# Altium schematic symbol library RoBeast_Schematic_Library.SchLib: 131 symbols (part 2 of 5)
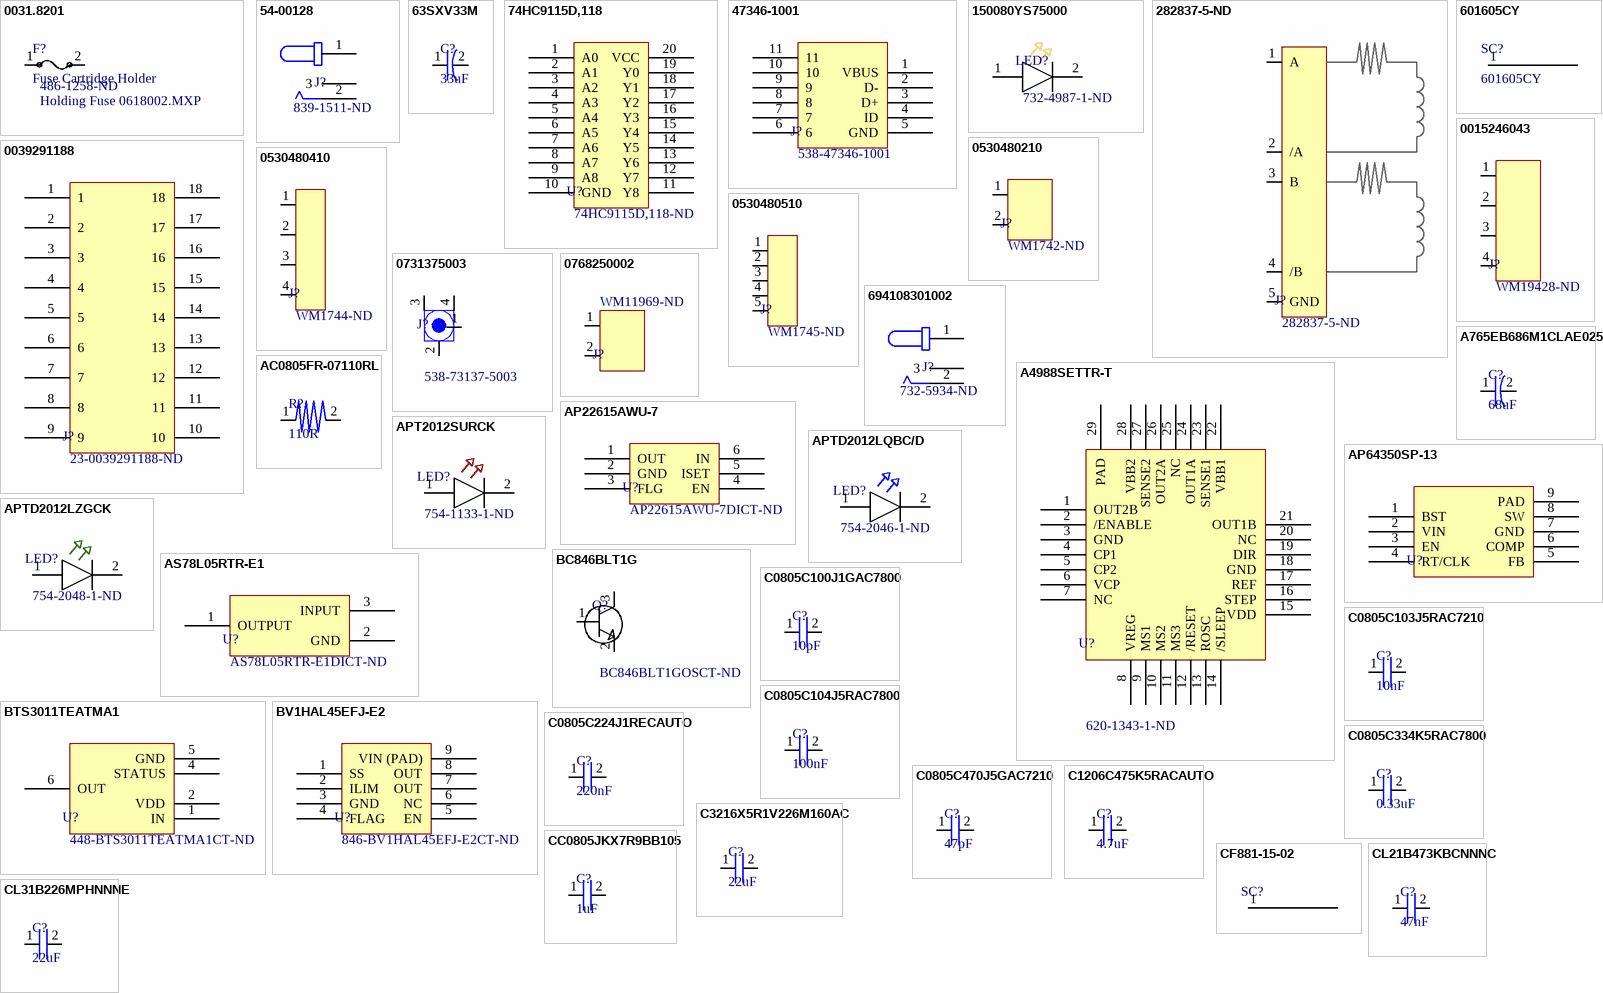
[diagram p4: symbols 0031.8201 to CL31B226MPHNNNE]

## C0805C100J1GAC7800
designator C?, comment 10pF
Ceramic Capacitor, Multilayer, Ceramic, 100V, 5% +Tol, 5% -Tol, C0G, 30ppm/Cel TC, 0.00001uF, Surface Mount, 0805; Manufacturer: KEMET; Manufacturer Part Number: C0805C100J1GACTU; Multilayer: Yes; Supplier: Digikey; Supplier Part Number: 399-C0805C100J1GAC7800CT-ND; RoHS: Yes; Category: Ceramic Capacitors; Stock: 31475; Pricing: 1=0.18, 10=0.122, 50=0.0732, 100=0.0576, 500=0.04252, 1000=0.03519 (USD); Mounting Technology: Surface Mount; Pins: 2; Dielectric Material: Ceramic; Package Shape: Rectangular; Case/Package: 0805; Terminal Finish: Nickel; Min Operating Temperature: -55°C; Max Operating Temperature: 125°C; JESD-609 Code: e3; Value: 10pF; Capacitor Type: Ceramic; Tolerance  (fill in as +-): 5%; Package Style: SMTMeter; Packaging: Tape and Reel; Tolerance (fill in as +-): 5%; Rated DC Voltage (URdc): 100V; Temperature Characteristics Code: C0G; Termination: Wraparound; Length: 2mm; Width: 1.25mm; Height: 0.78mm; Reach SVHC Compliant: Yes; RoHS Compliant: Yes; ComponentLink1URL: https://datasheet.ciiva.com:443/pdfs/VipMasterIC/IC/KEME/KEME-S-A0005605168/KEME-S-A0005605168-1.pdf?src-supplier=IHS+Markit; ComponentLink1Description: https://datasheet.ciiva.com:443/pdfs/VipMasterIC/IC/KEME/KEME-S-A0005605168/KEME-S-A0005605168-1.pdf?src-supplier=IHS+Markit; ComponentLink2URL: https://datasheet.ciiva.com/7842/kem-c1003-c0g-smd-7842137.pdf?src-supplier=Element14; ComponentLink2Description: https://datasheet.ciiva.com/7842/kem-c1003-c0g-smd-7842137.pdf?src-supplier=Element14; ComponentLink3URL: https://datasheet.ciiva.com/7842/kem-c1003-c0g-smd-7842136.pdf?src-supplier=Element14; ComponentLink3Description: https://datasheet.ciiva.com/7842/kem-c1003-c0g-smd-7842136.pdf?src-supplier=Element14; ComponentLink4URL: https://datasheet.ciiva.com/28668/1789732-28668725.pdf?src-supplier=Element14; ComponentLink4Description: https://datasheet.ciiva.com/28668/1789732-28668725.pdf?src-supplier=Element14; ComponentLink5URL: https://datasheet.ciiva.com/14588/70095383-14588189.pdf?src-supplier=Allied+Electronics; ComponentLink5Description: https://datasheet.ciiva.com/14588/70095383-14588189.pdf?src-supplier=Allied+Electronics; ComponentLink6URL: https://datasheet.ciiva.com/14603/70095383-14603133.pdf?src-supplier=Allied+Electronics; ComponentLink6Description: https://datasheet.ciiva.com/14603/70095383-14603133.pdf?src-supplier=Allied+Electronics
footprint 0805
pins: 1, 2

## C0805C103J5RAC7210
designator C?, comment 10nF
Ceramic Capacitor, Multilayer, Ceramic, 50V, 5% +Tol, 5% -Tol, X7R, 15% TC, 0.01uF, Surface Mount, 0805; Manufacturer: KEMET; Manufacturer Part Number: C0805C103J5RAC7210; Multilayer: Yes; Supplier 1: Digikey; RoHS: Yes; Category: Ceramic Capacitors; Stock 1: 247971; Pricing 1: 1=0.1, 10=0.059, 50=0.034, 100=0.0263, 500=0.0198, 1000=0.01555, 2500=0.01414, 5000=0.01301 (USD); Mount: Surface Mount; Number of Pins: 2; Dielectric Material: Ceramic; Package Shape: Rectangular; Size Code: 0805; Terminal Finish: Nickel; Min Operating Temperature: -55°C; Max Operating Temperature: 125°C; JESD-609 Code: e3; Capacitance: 10nF; Capacitor Type: Ceramic; Negative Tolerance: 5%; Packaging: Tape and Reel; Positive Tolerance: 5%; Rated DC Voltage (URdc): 50V; Temperature Characteristics Code: X7R; Termination: Wraparound; Reach SVHC Compliant: Yes; RoHS Compliant: Yes; ComponentLink1URL: https://datasheet.ciiva.com:443/pdfs/VipMasterIC/IC/KEME/KEME-S-A0008991654/KEME-S-A0008991654-1.pdf?src-supplier=IHS+Markit; ComponentLink1Description: https://datasheet.ciiva.com:443/pdfs/VipMasterIC/IC/KEME/KEME-S-A0008991654/KEME-S-A0008991654-1.pdf?src-supplier=IHS+Markit; ComponentLink2URL: http://components.arrow.com/part/dataview/3450688S9650973N7429?src-supplier=Arrow+Electronics; ComponentLink2Description: http://components.arrow.com/part/dataview/3450688S9650973N7429?src-supplier=Arrow+Electronics; ComponentLink3URL: http://www.mouser.com/ds/2/212/KEM_C1002_X7R_SMD-1102033.pdf?src-supplier=Mouser; ComponentLink3Description: http://www.mouser.com/ds/2/212/KEM_C1002_X7R_SMD-1102033.pdf?src-supplier=Mouser; ComponentLink4URL: https://api.kemet.com/component-edge/download/datasheet/C0805C103J5RAC7210.pdf?src-supplier=Digikey; ComponentLink4Description: https://api.kemet.com/component-edge/download/datasheet/C0805C103J5RAC7210.pdf?src-supplier=Digikey; Supplier Part Number 1: 399-17616-1-ND
footprint 0805
pins: 1, 2

## C0805C104J5RAC7800
designator C?, comment 100nF
Ceramic Capacitor, Multilayer, Ceramic, 50V, 5% +Tol, 5% -Tol, X7R, 15% TC, 0.1uF, Surface Mount, 0805; Manufacturer: KEMET; Manufacturer Part Number: C0805C104J5RACTU; Multilayer: Yes; Supplier 1: Digikey; RoHS: Yes; Category: Ceramic Capacitors; Stock 1: 605061; Pricing 1: 1=0.18, 10=0.122, 50=0.0732, 100=0.0576, 500=0.04252, 1000=0.03519 (USD); Mount: Surface Mount; Number of Pins: 2; Dielectric Material: Ceramic; Package Shape: Rectangular; Size Code: 0805; Terminal Finish: Nickel; Min Operating Temperature: -55°C; Max Operating Temperature: 125°C; JESD-609 Code: e3; Capacitor Type: Ceramic; Negative Tolerance: 5%; Packaging: Tape and Reel; Positive Tolerance: 5%; Rated DC Voltage (URdc): 50V; Temperature Characteristics Code: X7R; Termination: Wraparound; Reach SVHC Compliant: Yes; RoHS Compliant: Yes; ComponentLink1URL: http://capacitoredge.kemet.com:80/capedge2/intellispec.jsp?pn=C0805C104J5RACTU&displayPN=C0805C104J5RACTU&src-supplier=IHS+Markit; ComponentLink1Description: http://capacitoredge.kemet.com:80/capedge2/intellispec.jsp?pn=C0805C104J5RACTU&displayPN=C0805C104J5RACTU&src-supplier=IHS+Markit; ComponentLink2URL: https://datasheet.ciiva.com/7842/1732721-7842179.pdf?src-supplier=Element14; ComponentLink2Description: https://datasheet.ciiva.com/7842/1732721-7842179.pdf?src-supplier=Element14; ComponentLink3URL: https://datasheet.ciiva.com/28682/1851736-28682223.pdf?src-supplier=Element14; ComponentLink3Description: https://datasheet.ciiva.com/28682/1851736-28682223.pdf?src-supplier=Element14; ComponentLink4URL: https://datasheet.ciiva.com/7258/1828800-7258413.pdf?src-supplier=Newark; ComponentLink4Description: https://datasheet.ciiva.com/7258/1828800-7258413.pdf?src-supplier=Newark; ComponentLink5URL: https://datasheet.ciiva.com/14589/70095383-14589015.pdf?src-supplier=Allied+Electronics; ComponentLink5Description: https://datasheet.ciiva.com/14589/70095383-14589015.pdf?src-supplier=Allied+Electronics; ComponentLink6URL: https://datasheet.ciiva.com/5417/kem-c1002-x7r-smd-5417352.pdf?src-supplier=Mouser; ComponentLink6Description: https://datasheet.ciiva.com/5417/kem-c1002-x7r-smd-5417352.pdf?src-supplier=Mouser; ComponentLink7URL: https://datasheet.ciiva.com/39122/docfinderpartnumberc0402c102k5ractu-39122924.pdf?src-supplier=Onlinecomponents.com; ComponentLink7Description: https://datasheet.ciiva.com/39122/docfinderpartnumberc0402c102k5ractu-39122924.pdf?src-supplier=Onlinecomponents.com; Supplier Part Number 1: 399-C0805C104J5RAC7800CT-ND; Capacitance: 100nF
footprint 0805
pins: 1, 2

## C0805C224J1RECAUTO
designator C?, comment 220nF
Ceramic Capacitor, Multilayer, Ceramic, 100V, 5% +Tol, 5% -Tol, X7R, 15% TC, 0.22uF, Surface Mount, 0805; Manufacturer: KEMET; Manufacturer Part Number: C0805C224J1RECAUTO; Supplier 1: Digikey; RoHS: Yes; Category: Ceramic Capacitors; Stock 1: 3363; Pricing 1: 1=0.32, 10=0.207, 50=0.145, 100=0.1171, 500=0.08702, 1000=0.07614 (USD); Number of Pins: 2; Dielectric Material: Ceramic; Capacitor Type: Ceramic; Reach SVHC Compliant: Yes; RoHS Compliant: Yes; ComponentLink1URL: https://datasheet.ciiva.com:443/pdfs/VipMasterIC/IC/KEME/KEME-S-A0008958450/KEME-S-A0008958450-1.pdf?src-supplier=IHS+Markit; ComponentLink1Description: https://datasheet.ciiva.com:443/pdfs/VipMasterIC/IC/KEME/KEME-S-A0008958450/KEME-S-A0008958450-1.pdf?src-supplier=IHS+Markit; ComponentLink2URL: https://api.kemet.com/component-edge/download/datasheet/C0805C224J1RECAUTO.pdf?src-supplier=Digikey; ComponentLink2Description: https://api.kemet.com/component-edge/download/datasheet/C0805C224J1RECAUTO.pdf?src-supplier=Digikey; Supplier Part Number 1: 399-C0805C224J1RECAUTOCT-ND
footprint 0805
pins: 1, 2

## C0805C334K5RAC7800
designator C?, comment 0.33uF
Ceramic Capacitor, Multilayer, Ceramic, 50V, 10% +Tol, 10% -Tol, X7R, 15% TC, 0.33uF, Surface Mount, 0805; Manufacturer: KEMET; Manufacturer Part Number: C0805C334K5RACTU; Capacitance: 330nF; Multilayer: Yes; Supplier 1: Digikey; RoHS: Yes; Category: Ceramic Capacitors; Stock 1: 50949; Pricing 1: 1=0.16, 10=0.111, 50=0.0662, 100=0.0521, 500=0.0385, 1000=0.03188 (USD); Mount: Surface Mount; Number of Pins: 2; Dielectric Material: Ceramic; Package Shape: Rectangular; Size Code: 0805; Terminal Finish: Nickel; Min Operating Temperature: -55°C; Max Operating Temperature: 125°C; JESD-609 Code: e3; Capacitor Type: Ceramic; Negative Tolerance: 10%; Packaging: Tape and Reel; Positive Tolerance: 10%; Rated DC Voltage (URdc): 50V; Temperature Characteristics Code: X7R; Termination: Wraparound; Manufacturer Series: C0805C334K5RACTU; Reach SVHC Compliant: Yes; RoHS Compliant: Yes; ComponentLink1URL: http://capacitoredge.kemet.com:80/capedge2/DataSheet/Datasheet-C0805C334K5RAC7800.pdf?pn=C0805C334K5RAC7800&src-supplier=IHS+Markit; ComponentLink1Description: http://capacitoredge.kemet.com:80/capedge2/DataSheet/Datasheet-C0805C334K5RAC7800.pdf?pn=C0805C334K5RAC7800&src-supplier=IHS+Markit; ComponentLink2URL: https://datasheet.ciiva.com/28608/1851736-28608437.pdf?src-supplier=Element14; ComponentLink2Description: https://datasheet.ciiva.com/28608/1851736-28608437.pdf?src-supplier=Element14; ComponentLink3URL: https://datasheet.ciiva.com/28696/1851736-28696038.pdf?src-supplier=Element14; ComponentLink3Description: https://datasheet.ciiva.com/28696/1851736-28696038.pdf?src-supplier=Element14; ComponentLink4URL: https://datasheet.ciiva.com/18193/getdatasheetpartid-385729-18193783.pdf?src-supplier=Verical; ComponentLink4Description: https://datasheet.ciiva.com/18193/getdatasheetpartid-385729-18193783.pdf?src-supplier=Verical; ComponentLink5URL: https://datasheet.ciiva.com/18193/getdatasheetpartid-93202-18193786.pdf?src-supplier=Verical; ComponentLink5Description: https://datasheet.ciiva.com/18193/getdatasheetpartid-93202-18193786.pdf?src-supplier=Verical; Supplier Part Number 1: 399-C0805C334K5RAC7800CT-ND
footprint 0805
pins: 1, 2

## C0805C470J5GAC7210
designator C?, comment 47pF
Ceramic Capacitor, Multilayer, Ceramic, 50V, 5% +Tol, 5% -Tol, C0G, 30ppm/Cel TC, 0.000047uF, Surface Mount, 0805; Manufacturer: KEMET; Manufacturer Part Number: C0805C470J5GAC7210; Supplier 1: Digikey; RoHS: Yes; Category: Ceramic Capacitors; Stock 1: 22724; Pricing 1: 1=0.1, 10=0.054, 50=0.031, 100=0.024, 500=0.01802, 1000=0.01417, 2500=0.01288, 5000=0.01185 (USD); Number of Pins: 2; Dielectric Material: Ceramic; Terminal Finish: Nickel; JESD-609 Code: e3; Capacitor Type: Ceramic; Reach SVHC Compliant: Yes; RoHS Compliant: Yes; ComponentLink1URL: https://datasheet.ciiva.com:443/pdfs/VipMasterIC/IC/KEME/KEME-S-A0005605168/KEME-S-A0005605168-1.pdf?src-supplier=IHS+Markit; ComponentLink1Description: https://datasheet.ciiva.com:443/pdfs/VipMasterIC/IC/KEME/KEME-S-A0005605168/KEME-S-A0005605168-1.pdf?src-supplier=IHS+Markit; ComponentLink2URL: https://datasheet.ciiva.com/11646/kem-c1003-c0g-smd-11646575.pdf?src-supplier=Avnet; ComponentLink2Description: https://datasheet.ciiva.com/11646/kem-c1003-c0g-smd-11646575.pdf?src-supplier=Avnet; Supplier Part Number 1: 399-C0805C470J5GAC7210CT-ND
footprint 0805
pins: 1, 2

## C1206C475K5RACAUTO
designator C?, comment 4.7uF
Ceramic Capacitor, Multilayer, Ceramic, 50V, 10% +Tol, 10% -Tol, X7R, 15% TC, 4.7uF, Surface Mount, 1206; Manufacturer: KEMET; Manufacturer Part Number: C1206C475K5RACAUTO; Supplier: Digikey; Supplier Part Number: 399-C1206C475K5RACAUTOCT-ND; RoHS: Yes; Category: Ceramic Capacitors; Stock: 66; Pricing: 1=0.43, 10=0.285, 50=0.2104, 100=0.1713, 500=0.13522, 1000=0.11418 (USD); ComponentLink1URL: https://datasheet.ciiva.com:443/pdfs/VipMasterIC/IC/KEME/KEME-S-A0009891634/KEME-S-A0009891634-1.pdf?src-supplier=IHS+Markit; ComponentLink1Description: https://datasheet.ciiva.com:443/pdfs/VipMasterIC/IC/KEME/KEME-S-A0009891634/KEME-S-A0009891634-1.pdf?src-supplier=IHS+Markit; ComponentLink2URL: http://www.farnell.com/datasheets/2818560.pdf?src-supplier=Newark; ComponentLink2Description: http://www.farnell.com/datasheets/2818560.pdf?src-supplier=Newark
footprint 1206
pins: 1, 2

## C3216X5R1V226M160AC
designator C?, comment 22uF
Ceramic Capacitor, Multilayer, Ceramic, 35V, 20% +Tol, 20% -Tol, X5R, 15% TC, 22uF, Surface Mount, 1206; Manufacturer: TDK; Manufacturer Part Number: C3216X5R1V226M160AC; Multilayer: Yes; Supplier 1: Digikey; RoHS: Yes; Category: Ceramic Capacitors; Stock 1: 338205; Pricing 1: 1=0.97, 10=0.7, 50=0.6118, 100=0.4985, 500=0.40788, 1000=0.35123 (USD); Mount: Surface Mount; Number of Pins: 2; Dielectric Material: Ceramic; Package Shape: Rectangular; Size Code: 1206; Terminal Finish: Nickel; Min Operating Temperature: -55°C; Max Operating Temperature: 85°C; JESD-609 Code: e3; Capacitance: 22uF; Capacitor Type: Ceramic; Negative Tolerance: 20%; Package Style: SMTMeter; Packaging: Tape and Reel; Positive Tolerance: 20%; Rated DC Voltage (URdc): 35V; Temperature Characteristics Code: X5R; Termination: Wraparound; Length: 3.2mm; Width: 1.6mm; Height: 1.6mm; Reach SVHC Compliant: Yes; RoHS Compliant: Yes; ComponentLink1URL: https://datasheet.ciiva.com:443/pdfs/VipMasterIC/IC/TDKC/TDKC-S-A0008796792/TDKC-S-A0008796792-1.pdf?src-supplier=IHS+Markit; ComponentLink1Description: https://datasheet.ciiva.com:443/pdfs/VipMasterIC/IC/TDKC/TDKC-S-A0008796792/TDKC-S-A0008796792-1.pdf?src-supplier=IHS+Markit; ComponentLink2URL: https://datasheet.ciiva.com/24216/c3216x5r1v226m160ac-265035-24216573.pdf?src-supplier=Mouser; ComponentLink2Description: https://datasheet.ciiva.com/24216/c3216x5r1v226m160ac-265035-24216573.pdf?src-supplier=Mouser; ComponentLink3URL: https://datasheet.ciiva.com/23803/1796654-23803046.pdf?src-supplier=Newark; ComponentLink3Description: https://datasheet.ciiva.com/23803/1796654-23803046.pdf?src-supplier=Newark; ComponentLink4URL: https://datasheet.ciiva.com/22725/1913358-22725591.pdf?src-supplier=Element14; ComponentLink4Description: https://datasheet.ciiva.com/22725/1913358-22725591.pdf?src-supplier=Element14; ComponentLink5URL: https://datasheet.ciiva.com/22725/1913358-22725592.pdf?src-supplier=Element14; ComponentLink5Description: https://datasheet.ciiva.com/22725/1913358-22725592.pdf?src-supplier=Element14; ComponentLink6URL: https://datasheet.ciiva.com/6259/tdkmlcccaprange-6259231.pdf?src-supplier=Digikey; ComponentLink6Description: https://datasheet.ciiva.com/6259/tdkmlcccaprange-6259231.pdf?src-supplier=Digikey; Supplier Part Number 1: 445-8045-1-ND
footprint 1206
pins: 1, 2

## CC0805JKX7R9BB105
designator C?, comment 1uF
Ceramic Capacitor, Multilayer, Ceramic, 50V, 5% +Tol, 5% -Tol, X7R, 15% TC, 1uF, Surface Mount, 0805; Manufacturer: Yageo; Manufacturer Part Number: CC0805JKX7R9BB105; Supplier 1: Digikey; RoHS: Yes; Category: Ceramic Capacitors; Stock 1: 50247; Pricing 1: 1=0.32, 10=0.207, 50=0.1454, 100=0.1174, 500=0.08724, 1000=0.07633 (USD); ComponentLink1URL: https://datasheet.ciiva.com:443/pdfs/VipMasterIC/IC/YAGO/YAGO-S-A0003557223/YAGO-S-A0003557223-1.pdf?src-supplier=IHS+Markit; ComponentLink1Description: https://datasheet.ciiva.com:443/pdfs/VipMasterIC/IC/YAGO/YAGO-S-A0003557223/YAGO-S-A0003557223-1.pdf?src-supplier=IHS+Markit; ComponentLink2URL: http://www.yageo.com/documents/recent/UPY-GPHC_X7R_6.3V-to-50V_18.pdf?src-supplier=Digikey; ComponentLink2Description: http://www.yageo.com/documents/recent/UPY-GPHC_X7R_6.3V-to-50V_18.pdf?src-supplier=Digikey; Supplier Part Number 1: 311-3498-1-ND
footprint 0805
pins: 1, 2

## CF881-15-02
designator SC?  (value not drawn)
2 Core, AWG 16
pins: 1

## CL21B473KBCNNNC
designator C?, comment 47nF
Ceramic Capacitor, Multilayer, Ceramic, 50V, 10% +Tol, 10% -Tol, X7R, 15% TC, 0.047uF, Surface Mount, 0805; Manufacturer: Samsung; Manufacturer Part Number: CL21B473KBCNNNC; Multilayer: Yes; Supplier 1: Digikey; RoHS: Yes; Category: Ceramic Capacitors; Stock 1: 502166; Pricing 1: 1=0.1, 10=0.036, 50=0.0208, 100=0.0161, 500=0.01212, 1000=0.00953 (USD); Mount: Surface Mount; Number of Pins: 2; Dielectric Material: Ceramic; Package Shape: Rectangular; Size Code: 0805; Terminal Finish: Nickel; Min Operating Temperature: -55°C; Max Operating Temperature: 125°C; JESD-609 Code: e3; Capacitance: 47nF; Capacitor Type: Ceramic; Negative Tolerance: 10%; Package Style: SMTMeter; Packaging: Tape and Reel; Positive Tolerance: 10%; Rated DC Voltage (URdc): 50V; Temperature Characteristics Code: X7R; Termination: Wraparound; Length: 2mm; Width: 1.25mm; Height: 0.85mm; Reach SVHC Compliant: Yes; RoHS Compliant: Yes; ComponentLink1URL: https://datasheet.ciiva.com:443/pdfs/VipMasterIC/IC/SEMS/SEMS-S-A0008523078/SEMS-S-A0008523078-1.pdf?src-supplier=IHS+Markit; ComponentLink1Description: https://datasheet.ciiva.com:443/pdfs/VipMasterIC/IC/SEMS/SEMS-S-A0008523078/SEMS-S-A0008523078-1.pdf?src-supplier=IHS+Markit; ComponentLink2URL: https://datasheet.ciiva.com/15195/getdatasheetpartid-357428-15195917.pdf?src-supplier=Verical; ComponentLink2Description: https://datasheet.ciiva.com/15195/getdatasheetpartid-357428-15195917.pdf?src-supplier=Verical; ComponentLink3URL: https://datasheet.ciiva.com/29199/454396-da-01-en-vs-kondensator-0805-29199678.pdf?src-supplier=Conrad; ComponentLink3Description: https://datasheet.ciiva.com/29199/454396-da-01-en-vs-kondensator-0805-29199678.pdf?src-supplier=Conrad; ComponentLink4URL: https://datasheet.ciiva.com/16289/cl05b104kq5nnnc-16289529.pdf?src-supplier=Future+Electronics; ComponentLink4Description: https://datasheet.ciiva.com/16289/cl05b104kq5nnnc-16289529.pdf?src-supplier=Future+Electronics; Supplier Part Number 1: 1276-1250-1-ND
footprint 0805
pins: 1, 2

## CL31B226MPHNNNE
designator C?, comment 22uF
Ceramic Capacitor, Multilayer, Ceramic, 10V, 20% +Tol, 20% -Tol, X7R, 15% TC, 22uF, Surface Mount, 1206; Manufacturer: Samsung; Manufacturer Part Number: CL31B226MPHNNNE; Multilayer: Yes; Supplier 1: Digikey; RoHS: Yes; Category: Ceramic Capacitors; Stock 1: 1058662; Pricing 1: 1=0.34, 10=0.225, 50=0.1658, 100=0.1349, 500=0.10654, 1000=0.08996 (USD); Mount: Surface Mount; Number of Pins: 2; Dielectric Material: Ceramic; Package Shape: Rectangular; Size Code: 1206; Terminal Finish: Nickel; Min Operating Temperature: -55°C; Max Operating Temperature: 125°C; JESD-609 Code: e3; Capacitance: 22uF; Capacitor Type: Ceramic; Negative Tolerance: 20%; Packaging: Tape and Reel; Positive Tolerance: 20%; Rated DC Voltage (URdc): 10V; Temperature Characteristics Code: X7R; Termination: Wraparound; Reach SVHC Compliant: Yes; RoHS Compliant: Yes; ComponentLink1URL: https://datasheet.ciiva.com:443/pdfs/VipMasterIC/IC/SEMS/SEMS-S-A0008384515/SEMS-S-A0008872952-1.pdf?src-supplier=IHS+Markit; ComponentLink1Description: https://datasheet.ciiva.com:443/pdfs/VipMasterIC/IC/SEMS/SEMS-S-A0008384515/SEMS-S-A0008872952-1.pdf?src-supplier=IHS+Markit; ComponentLink2URL: https://datasheet.ciiva.com/25792/cl31b226mphnnne-25792003.pdf?src-supplier=Digikey; ComponentLink2Description: https://datasheet.ciiva.com/25792/cl31b226mphnnne-25792003.pdf?src-supplier=Digikey; Supplier Part Number 1: 1276-3148-1-ND
footprint 1206
pins: 1, 2

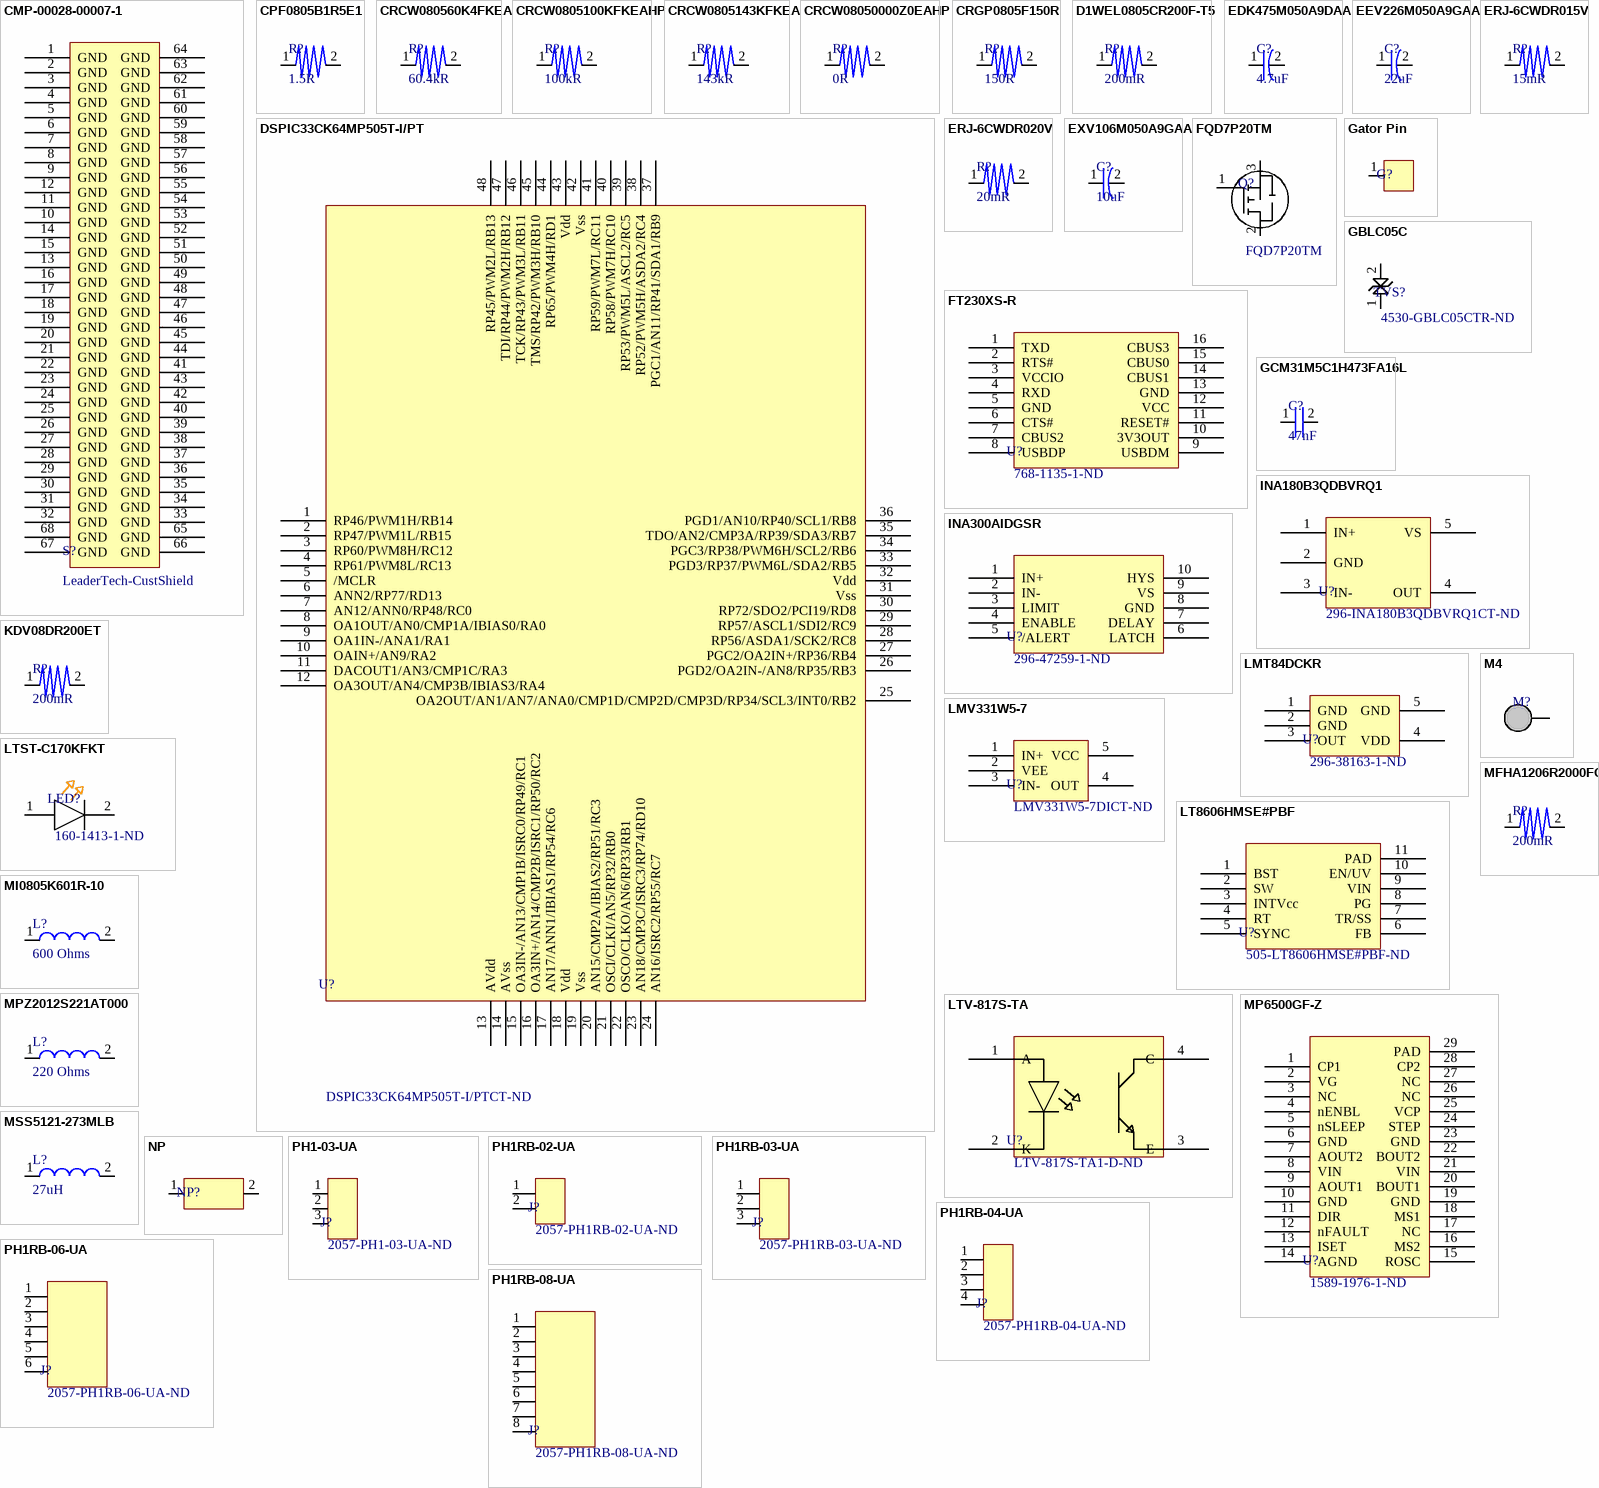
[diagram p1: symbols CMP-00028-00007-1 to PH1RB-08-UA]

## CMP-00028-00007-1
designator S?, comment LeaderTech-CustShield
footprint CMP-00028-00007-1
pins: 1 GND, 2 GND, 3 GND, 4 GND, 5 GND, 6 GND, 7 GND, 8 GND, 9 GND, 10 GND, 11 GND, 12 GND, 13 GND, 14 GND, 15 GND, 16 GND, 17 GND, 18 GND, 19 GND, 20 GND, 21 GND, 22 GND, 23 GND, 24 GND, 25 GND, 26 GND, 27 GND, 28 GND, 29 GND, 30 GND, 31 GND, 32 GND, 33 GND, 34 GND, 35 GND, 36 GND, 37 GND, 38 GND, 39 GND, 40 GND, 41 GND, 42 GND, 43 GND, 44 GND, 45 GND, 46 GND, 47 GND, 48 GND, 49 GND, 50 GND, 51 GND, 52 GND, 53 GND, 54 GND, 55 GND, 56 GND, 57 GND, 58 GND, 59 GND, 60 GND, 61 GND, 62 GND, 63 GND, 64 GND, 65 GND, 66 GND, 67 GND, 68 GND

## CPF0805B1R5E1
designator R?, comment 1.5R
Res Thin Film 1.5Ohm 0.1% 100mW 25ppm/°C 2-Pin 0805 SMD T/R; Manufacturer: TE Connectivity Neohm; Manufacturer Part Number: CPF0805B1R5E1; Supplier: Digikey; Supplier Part Number: 1712-CPF0805B1R5E1CT-ND; RoHS: No; Stock: 3041; Pricing: 1=0.4, 10=0.284, 50=0.2182, 100=0.1935, 500=0.1444 (USD)
footprint 0805
pins: 1, 2

## CRCW080560K4FKEA
designator R?, comment 60.4kR
Fixed Resistor, Metal Glaze/thick Film, 0.125W, 60400ohm, 150V, 1% +/-Tol, 100ppm/Cel, Surface Mount, 0805; Manufacturer: Vishay; Manufacturer Part Number: CRCW080560K4FKEA; Rated Power Dissipation (P): 125mW; Rated Temperature: 70°C; Temperature Coefficient: 100ppm/°C; Package Height: 0.45mm; Package Length: 2mm; Package Width: 1.25mm; Reference Standard: AEC-Q200; Supplier 1: Digikey; RoHS: Yes; Category: Chip SMD Resistors; Stock 1: 41115; Pricing 1: 1=0.1, 10=0.038, 50=0.0248, 100=0.021, 500=0.01462, 1000=0.01273 (USD); Mount: Surface Mount; Number of Pins: 2; Package Shape: Rectangular; Size Code: 0805; Terminal Finish: Nickel; Min Operating Temperature: -55°C; Max Operating Temperature: 155°C; Tolerance: 1%; JESD-609 Code: e3; Resistor Type: FIXED RESISTOR; Construction: Chip; Package Style: SMTMeter; Packaging: Tape and Reel; Resistance: 60.4kR; Technology: METAL GLAZE/THICK FILM; Termination: Wraparound; Working Voltage: 150V; Reach SVHC Compliant: Yes; RoHS Compliant: Yes; ComponentLink1URL: https://datasheet.ciiva.com:443/pdfs/VipMasterIC/IC/VISH/VISH-S-A0007266705/VISH-S-A0007266705-1.pdf?src-supplier=IHS+Markit; ComponentLink1Description: https://datasheet.ciiva.com:443/pdfs/VipMasterIC/IC/VISH/VISH-S-A0007266705/VISH-S-A0007266705-1.pdf?src-supplier=IHS+Markit; ComponentLink2URL: https://datasheet.ciiva.com/11812/0900766b80d98b26-11812606.pdf?src-supplier=Rs; ComponentLink2Description: https://datasheet.ciiva.com/11812/0900766b80d98b26-11812606.pdf?src-supplier=Rs; ComponentLink3URL: https://datasheet.ciiva.com/2496/dcrcwe3-2496163.pdf?src-supplier=Digikey; ComponentLink3Description: https://datasheet.ciiva.com/2496/dcrcwe3-2496163.pdf?src-supplier=Digikey; ComponentLink4URL: https://datasheet.ciiva.com/2496/dcrcwe3-2496164.pdf?src-supplier=Digikey; ComponentLink4Description: https://datasheet.ciiva.com/2496/dcrcwe3-2496164.pdf?src-supplier=Digikey; ComponentLink5URL: https://datasheet.ciiva.com/2496/dcrcwe3-2496165.pdf?src-supplier=Digikey; ComponentLink5Description: https://datasheet.ciiva.com/2496/dcrcwe3-2496165.pdf?src-supplier=Digikey; ComponentLink6URL: https://datasheet.ciiva.com/8996/dcrcwe3-8996426.pdf?src-supplier=Avnet; ComponentLink6Description: https://datasheet.ciiva.com/8996/dcrcwe3-8996426.pdf?src-supplier=Avnet; ComponentLink7URL: https://datasheet.ciiva.com/8996/dcrcwe3-8996428.pdf?src-supplier=Avnet; ComponentLink7Description: https://datasheet.ciiva.com/8996/dcrcwe3-8996428.pdf?src-supplier=Avnet; ComponentLink8URL: https://datasheet.ciiva.com/16761/70201119-16761640.pdf?src-supplier=Allied+Electronics; ComponentLink8Description: https://datasheet.ciiva.com/16761/70201119-16761640.pdf?src-supplier=Allied+Electronics; ComponentLink9URL: https://datasheet.ciiva.com/16763/70201119-16763337.pdf?src-supplier=Allied+Electronics; ComponentLink9Description: https://datasheet.ciiva.com/16763/70201119-16763337.pdf?src-supplier=Allied+Electronics; ComponentLink10URL: https://datasheet.ciiva.com/22702/1697337-22702842.pdf?src-supplier=Element14; ComponentLink10Description: https://datasheet.ciiva.com/22702/1697337-22702842.pdf?src-supplier=Element14; ComponentLink11URL: https://datasheet.ciiva.com/7816/1697337-7816106.pdf?src-supplier=Element14; ComponentLink11Description: https://datasheet.ciiva.com/7816/1697337-7816106.pdf?src-supplier=Element14; ComponentLink12URL: https://datasheet.ciiva.com/7816/1697337-7816107.pdf?src-supplier=Element14; ComponentLink12Description: https://datasheet.ciiva.com/7816/1697337-7816107.pdf?src-supplier=Element14; Supplier Part Number 1: 541-60.4KCCT-ND
footprint 0805
pins: 1, 2

## CRCW0805100KFKEAHP
designator R?, comment 100kR
Fixed Resistor, Metal Glaze/thick Film, 0.5W, 100000ohm, 150V, 1% +/-Tol, 100ppm/Cel, Surface Mount, 0805; Manufacturer: Vishay; Manufacturer Part Number: CRCW0805100KFKEAHP; Manufacturer Series: CRCW-HPE3; Rated Power Dissipation (P): 500mW; Rated Temperature: 70°C; Temperature Coefficient: 100ppm/°C; Package Height: 0.5mm; Package Length: 2mm; Package Width: 1.25mm; Reference Standard: AEC-Q200; Supplier 1: Digikey; RoHS: Yes; Category: Chip SMD Resistors; Stock 1: 104274; Pricing 1: 1=0.2, 10=0.103, 50=0.0688, 100=0.0587, 500=0.0421, 1000=0.03706 (USD); Mount: Surface Mount; Number of Pins: 2; Package Shape: Rectangular; Terminal Finish: Nickel; Size Code: 0805; Min Operating Temperature: -55°C; Max Operating Temperature: 155°C; Tolerance: 1%; JESD-609 Code: e3; Package Style: SMTMeter; Technology: METAL GLAZE/THICK FILM; Resistor Type: FIXED RESISTOR; Construction: Chip; Packaging: Tape and Reel; Resistance: 100kR; Series: CRCW-HP E3; Termination: Wraparound; Working Voltage: 150V; Reach SVHC Compliant: Yes; RoHS Compliant: Yes; ComponentLink1URL: https://datasheet.ciiva.com:443/pdfs/VipMasterIC/IC/VISH/VISH-S-A0009391795/VISH-S-A0009391795-1.pdf?src-supplier=IHS+Markit; ComponentLink1Description: https://datasheet.ciiva.com:443/pdfs/VipMasterIC/IC/VISH/VISH-S-A0009391795/VISH-S-A0009391795-1.pdf?src-supplier=IHS+Markit; ComponentLink2URL: https://datasheet.ciiva.com/2475/crcwhpe3-2475664.pdf?src-supplier=Digikey; ComponentLink2Description: https://datasheet.ciiva.com/2475/crcwhpe3-2475664.pdf?src-supplier=Digikey; ComponentLink3URL: https://datasheet.ciiva.com/8982/crcwhpe3-8982333.pdf?src-supplier=Avnet; ComponentLink3Description: https://datasheet.ciiva.com/8982/crcwhpe3-8982333.pdf?src-supplier=Avnet; ComponentLink4URL: https://datasheet.ciiva.com/7777/424479-7777350.pdf?src-supplier=Element14; ComponentLink4Description: https://datasheet.ciiva.com/7777/424479-7777350.pdf?src-supplier=Element14; ComponentLink5URL: https://datasheet.ciiva.com/7777/424479-7777351.pdf?src-supplier=Element14; ComponentLink5Description: https://datasheet.ciiva.com/7777/424479-7777351.pdf?src-supplier=Element14; Supplier Part Number 1: 541-100KTCT-ND
footprint 0805
pins: 1, 2

## CRCW0805143KFKEA
designator R?, comment 143kR
Fixed Resistor, Metal Glaze/thick Film, 0.125W, 143000ohm, 150V, 1% +/-Tol, 100ppm/Cel, Surface Mount, 0805; Manufacturer: Vishay; Manufacturer Part Number: CRCW0805143KFKEA; Power: 125mW; Rated Temperature: 70°C; Temperature Coefficient: 100ppm/°C; Package Height: 0.45mm; Package Length: 2mm; Package Width: 1.25mm; Reference Standard: AEC-Q200; Supplier: Digikey; Supplier Part Number: 541-143KCCT-ND; RoHS: Yes; Category: Chip SMD Resistors; Stock: 28222; Pricing: 1=0.1, 10=0.038, 50=0.0248, 100=0.021, 500=0.01462, 1000=0.01273 (USD); Mounting Technology: Surface Mount; Pins: 2; Package Shape: Rectangular; Case/Package: 0805; Terminal Finish: Nickel; Min Operating Temperature: -55°C; Max Operating Temperature: 155°C; Tolerance: 1%; JESD-609 Code: e3; Resistor Type: FIXED RESISTOR; Construction: Chip; Package Style: SMTMeter; Packaging: Tape and Reel; Value: 143kR; Technology: METAL GLAZE/THICK FILM; Termination: Wraparound; Working Voltage: 150V; Reach SVHC Compliant: Yes; RoHS Compliant: Yes; ComponentLink1URL: https://datasheet.ciiva.com:443/pdfs/VipMasterIC/IC/VISH/VISH-S-A0007266705/VISH-S-A0007266705-1.pdf?src-supplier=IHS+Markit; ComponentLink1Description: https://datasheet.ciiva.com:443/pdfs/VipMasterIC/IC/VISH/VISH-S-A0007266705/VISH-S-A0007266705-1.pdf?src-supplier=IHS+Markit; ComponentLink2URL: https://datasheet.ciiva.com/2495/dcrcwe3-2495569.pdf?src-supplier=Digikey; ComponentLink2Description: https://datasheet.ciiva.com/2495/dcrcwe3-2495569.pdf?src-supplier=Digikey; ComponentLink3URL: https://datasheet.ciiva.com/2495/dcrcwe3-2495571.pdf?src-supplier=Digikey; ComponentLink3Description: https://datasheet.ciiva.com/2495/dcrcwe3-2495571.pdf?src-supplier=Digikey; ComponentLink4URL: https://datasheet.ciiva.com/2495/dcrcwe3-2495570.pdf?src-supplier=Digikey; ComponentLink4Description: https://datasheet.ciiva.com/2495/dcrcwe3-2495570.pdf?src-supplier=Digikey; ComponentLink5URL: https://datasheet.ciiva.com/22675/1912744-22675883.pdf?src-supplier=Element14; ComponentLink5Description: https://datasheet.ciiva.com/22675/1912744-22675883.pdf?src-supplier=Element14; ComponentLink6URL: https://datasheet.ciiva.com/22675/1912744-22675884.pdf?src-supplier=Element14; ComponentLink6Description: https://datasheet.ciiva.com/22675/1912744-22675884.pdf?src-supplier=Element14
footprint 0805
pins: 1, 2

## CRCW08050000Z0EAHP
designator R?, comment 0R
Fixed Resistor, Metal Glaze/thick Film, 0.5W, 0ohm, Surface Mount, 0805; Manufacturer: Vishay Dale; Manufacturer Part Number: CRCW08050000Z0EAHP; Rated Power Dissipation (P): 500mW; Rated Temperature: 70°C; Package Height: 0.5mm; Package Length: 2mm; Package Width: 1.25mm; Reference Standard: AEC-Q200; Supplier 1: Digikey; RoHS: Yes; Category: Chip SMD Resistors; Stock 1: 189599; Pricing 1: 1=0.18, 10=0.142, 25=0.1088, 50=0.0788, 100=0.0555, 250=0.04488, 500=0.03534, 1000=0.02447 (USD); Mount: Surface Mount; Number of Pins: 2; Package Shape: Rectangular; Size Code: 0805; Terminal Finish: Nickel; Min Operating Temperature: -55°C; Max Operating Temperature: 155°C; JESD-609 Code: e3; Resistor Type: FIXED RESISTOR; Construction: Chip; Package Style: SMTMeter; Packaging: Tape and Reel; Resistance: 0R; Technology: METAL GLAZE/THICK FILM; Termination: Wraparound; Reach SVHC Compliant: Yes; RoHS Compliant: Yes; ComponentLink1URL: https://datasheet.ciiva.com:443/pdfs/VipMasterIC/IC/VISH/VISH-S-A0009391795/VISH-S-A0009391795-1.pdf?src-supplier=IHS+Markit; ComponentLink1Description: https://datasheet.ciiva.com:443/pdfs/VipMasterIC/IC/VISH/VISH-S-A0009391795/VISH-S-A0009391795-1.pdf?src-supplier=IHS+Markit; ComponentLink2URL: https://datasheet.ciiva.com/7859/crcwhpe3-7859727.pdf?src-supplier=Element14; ComponentLink2Description: https://datasheet.ciiva.com/7859/crcwhpe3-7859727.pdf?src-supplier=Element14; ComponentLink3URL: https://datasheet.ciiva.com/28621/1750852-28621406.pdf?src-supplier=Element14; ComponentLink3Description: https://datasheet.ciiva.com/28621/1750852-28621406.pdf?src-supplier=Element14; ComponentLink4URL: https://datasheet.ciiva.com/2474/crcwhpe3-2474633.pdf?src-supplier=Digikey; ComponentLink4Description: https://datasheet.ciiva.com/2474/crcwhpe3-2474633.pdf?src-supplier=Digikey; ComponentLink5URL: https://datasheet.ciiva.com/2474/crcwhpe3-2474634.pdf?src-supplier=Digikey; ComponentLink5Description: https://datasheet.ciiva.com/2474/crcwhpe3-2474634.pdf?src-supplier=Digikey; ComponentLink6URL: https://datasheet.ciiva.com/2474/crcwhpe3-2474632.pdf?src-supplier=Digikey; ComponentLink6Description: https://datasheet.ciiva.com/2474/crcwhpe3-2474632.pdf?src-supplier=Digikey; ComponentLink7URL: https://datasheet.ciiva.com/5549/crcwhpe3-46056-5549241.pdf?src-supplier=Mouser; ComponentLink7Description: https://datasheet.ciiva.com/5549/crcwhpe3-46056-5549241.pdf?src-supplier=Mouser; ComponentLink8URL: https://datasheet.ciiva.com/9109/crcwhpe3-9109934.pdf?src-supplier=Avnet; ComponentLink8Description: https://datasheet.ciiva.com/9109/crcwhpe3-9109934.pdf?src-supplier=Avnet; ComponentLink9URL: https://datasheet.ciiva.com/16498/crcwhpe3-16498294.pdf?src-supplier=Future+Electronics; ComponentLink9Description: https://datasheet.ciiva.com/16498/crcwhpe3-16498294.pdf?src-supplier=Future+Electronics; Supplier Part Number 1: 541-0.0TBCT-ND
footprint 0805
pins: 1, 2

## CRGP0805F150R
designator R?, comment 150R
Fixed Resistor, Metal Glaze/thick Film, 0.33W, 150ohm, 150V, 1% +/-Tol, 100ppm/Cel, Surface Mount, 0805; Manufacturer: TE Connectivity; Manufacturer Part Number: CRGP0805F150R; Supplier 1: Digikey; RoHS: Yes; Category: Chip SMD Resistors; Stock 1: 37582; Pricing 1: 1=0.17, 10=0.086, 50=0.0576, 100=0.0492, 500=0.0353, 1000=0.03107 (USD); Number of Pins: 2; Resistor Type: FIXED RESISTOR; Reach SVHC Compliant: Yes; RoHS Compliant: Yes; ComponentLink1URL: https://datasheet.ciiva.com:443/pdfs/VipMasterIC/IC/TYEL/TYEL-S-A0005460475/TYEL-S-A0005460475-1.pdf?src-supplier=IHS+Markit; ComponentLink1Description: https://datasheet.ciiva.com:443/pdfs/VipMasterIC/IC/TYEL/TYEL-S-A0005460475/TYEL-S-A0005460475-1.pdf?src-supplier=IHS+Markit; ComponentLink2URL: https://www.te.com/commerce/DocumentDelivery/DDEController?Action=srchrtrv&amp;DocNm=9-1773463-9&amp;DocType=DS&amp;DocLang=English&src-supplier=Digikey; ComponentLink2Description: https://www.te.com/commerce/DocumentDelivery/DDEController?Action=srchrtrv&amp;DocNm=9-1773463-9&amp;DocType=DS&amp;DocLang=English&src-supplier=Digikey; Supplier Part Number 1: A130467CT-ND
footprint 0805
pins: 1, 2

## D1WEL0805CR200F-T5
designator R?, comment 200mR
Res 0805 50PPM 0.2 Ohm 1.0% 0.75; Manufacturer: Thin Film Tech; Manufacturer Part Number: D1WEL0805CR200F-T5; Supplier 1: Digikey; RoHS: No; Category: Chip SMD Resistors; Stock 1: 11324; Pricing 1: 1=0.46, 10=0.337, 25=0.2704, 50=0.2008, 100=0.1417, 250=0.1262, 500=0.10818, 1000=0.08242 (USD); Supplier Part Number 1: 4463-D1WEL0805CR200F-T5CT-ND
footprint 0805
pins: 1, 2

## DSPIC33CK64MP505T-I/PT
designator U?, comment Supplier Part Number: DSPIC33CK64MP505T-I/PTCT-ND  (hidden comment: uC)
16-Bit Size, 0-Ext Bit, 64MHz, CMOS, PQFP48; Manufacturer: Microchip; Manufacturer Part Number: DSPIC33CK64MP505T-I/PT; Supplier: Digikey; RoHS: No; Category: Microcontrollers; Stock: 1600; Pricing: 1=3.75, 25=3.44, 100=3.12 (USD); ComponentLink1URL: https://datasheet.ciiva.com:443/pdfs/VipMasterIC/IC/MCHP/MCHP-S-A0007771634/MCHP-S-A0007771634-1.pdf?src-supplier=IHS+Markit; ComponentLink1Description: https://datasheet.ciiva.com:443/pdfs/VipMasterIC/IC/MCHP/MCHP-S-A0007771634/MCHP-S-A0007771634-1.pdf?src-supplier=IHS+Markit; ComponentLink2URL: http://www.microchip.com/mymicrochip/filehandler.aspx?ddocname=en606233&src-supplier=Digikey; ComponentLink2Description: http://www.microchip.com/mymicrochip/filehandler.aspx?ddocname=en606233&src-supplier=Digikey
footprint DSPIC33CK64MP505T-I/PT
pins: 1 RP46/PWM1H/RB14, 2 RP47/PWM1L/RB15, 3 RP60/PWM8H/RC12, 4 RP61/PWM8L/RC13, 5 /MCLR, 6 ANN2/RP77/RD13, 7 AN12/ANN0/RP48/RC0, 8 OA1OUT/AN0/CMP1A/IBIAS0/RA0, 9 OA1IN-/ANA1/RA1, 10 OAIN+/AN9/RA2, 11 DACOUT1/AN3/CMP1C/RA3, 12 OA3OUT/AN4/CMP3B/IBIAS3/RA4, 13 AVdd, 14 AVss, 15 OA3IN-/AN13/CMP1B/ISRC0/RP49/RC1, 16 OA3IN+/AN14/CMP2B/ISRC1/RP50/RC2, 17 AN17/ANN1/IBIAS1/RP54/RC6, 18 Vdd, 19 Vss, 20 AN15/CMP2A/IBIAS2/RP51/RC3, 21 OSCI/CLKI/AN5/RP32/RB0, 22 OSCO/CLKO/AN6/RP33/RB1, 23 AN18/CMP3C/ISRC3/RP74/RD10, 24 AN16/ISRC2/RP55/RC7, 25 OA2OUT/AN1/AN7/ANA0/CMP1D/CMP2D/CMP3D/RP34/SCL3/INT0/RB2, 26 PGD2/OA2IN-/AN8/RP35/RB3, 27 PGC2/OA2IN+/RP36/RB4, 28 RP56/ASDA1/SCK2/RC8, 29 RP57/ASCL1/SDI2/RC9, 30 RP72/SDO2/PCI19/RD8, 31 Vss, 32 Vdd, 33 PGD3/RP37/PWM6L/SDA2/RB5, 34 PGC3/RP38/PWM6H/SCL2/RB6, 35 TDO/AN2/CMP3A/RP39/SDA3/RB7, 36 PGD1/AN10/RP40/SCL1/RB8, 37 PGC1/AN11/RP41/SDA1/RB9, 38 RP52/PWM5H/ASDA2/RC4, 39 RP53/PWM5L/ASCL2/RC5, 40 RP58/PWM7H/RC10, 41 RP59/PWM7L/RC11, 42 Vss, 43 Vdd, 44 RP65/PWM4H/RD1, 45 TMS/RP42/PWM3H/RB10, 46 TCK/RP43/PWM3L/RB11, 47 TDI/RP44/PWM2H/RB12, 48 RP45/PWM2L/RB13

## EDK475M050A9DAA
designator C?, comment 4.7uF
Aluminum Electrolytic Capacitor, Polarized, Aluminum (wet), 50V, 20% +Tol, 20% -Tol, 4.7uF, Surface Mount, 2121; Manufacturer: KEMET; Manufacturer Part Number: EDK475M050A9DAA; Dielectric Material: Aluminium; Leakage Current: 3uA; Ripple Current: 23mA; Tan Delta: 0.12; Supplier 1: Digikey; RoHS: Yes; Category: Aluminum Electrolytic Capacitors; Stock 1: 9685; Pricing 1: 1=0.7, 10=0.493, 50=0.4154, 100=0.3383, 500=0.2819 (USD); Mount: Surface Mount; Number of Pins: 2; Package Shape: Cylindrical; Size Code: 2621; Min Operating Temperature: -40°C; Max Operating Temperature: 85°C; Polarity: Polarized; Capacitance: 4.7uF; Capacitor Type: Aluminium; Negative Tolerance: 20%; Package Style: SMTMeter; Packaging: Tape and Reel; Positive Tolerance: 20%; Rated DC Voltage (URdc): 50V; Termination: Flat; Length: 6.5mm; Width: 5.3mm; Height: 5.4mm; Reach SVHC Compliant: Yes; RoHS Compliant: Yes; ComponentLink1URL: https://datasheet.ciiva.com:443/pdfs/VipMasterIC/IC/KEME/KEME-S-A0008611145/KEME-S-A0008611145-1.pdf?src-supplier=IHS+Markit; ComponentLink1Description: https://datasheet.ciiva.com:443/pdfs/VipMasterIC/IC/KEME/KEME-S-A0008611145/KEME-S-A0008611145-1.pdf?src-supplier=IHS+Markit; ComponentLink2URL: http://www.mouser.com/ds/2/212/KEM_A4001_EDK-535350.pdf?src-supplier=Mouser; ComponentLink2Description: http://www.mouser.com/ds/2/212/KEM_A4001_EDK-535350.pdf?src-supplier=Mouser; ComponentLink3URL: https://search.kemet.com/component-edge/download/datasheet/EDK475M050A9DAA.pdf?src-supplier=Digikey; ComponentLink3Description: https://search.kemet.com/component-edge/download/datasheet/EDK475M050A9DAA.pdf?src-supplier=Digikey; Supplier Part Number 1: 399-6687-1-ND
footprint EDK475M050A9DAA
pins: 1, 2

## EEV226M050A9GAA
designator C?, comment 22uF
Aluminum Electrolytic Capacitor, Polarized, Aluminum (wet), 50V, 20% +Tol, 20% -Tol, 22uF, Surface Mount, 2626; Manufacturer: KEMET; Manufacturer Part Number: EEV226M050A9GAA; Capacitor Type: Aluminium; Supplier 1: Digikey; RoHS: Yes; Stock 1: 19791; Pricing 1: 1=0.37, 10=0.243, 50=0.1788, 100=0.1457, 500=0.11498 (USD); Number of Pins: 2; Reach SVHC Compliant: Yes; RoHS Compliant: Yes; ComponentLink1URL: https://datasheet.ciiva.com:443/pdfs/VipMasterIC/IC/KEME/KEME-S-A0008611149/KEME-S-A0008611149-1.pdf?src-supplier=IHS+Markit; ComponentLink1Description: https://datasheet.ciiva.com:443/pdfs/VipMasterIC/IC/KEME/KEME-S-A0008611149/KEME-S-A0008611149-1.pdf?src-supplier=IHS+Markit; ComponentLink2URL: https://api.kemet.com/component-edge/download/datasheet/EEV226M050A9GAA.pdf?src-supplier=Digikey; ComponentLink2Description: https://api.kemet.com/component-edge/download/datasheet/EEV226M050A9GAA.pdf?src-supplier=Digikey; Supplier Part Number 1: 399-18142-1-ND
footprint EEV226M050A9GAA
pins: 1, 2

## ERJ-6CWDR015V
designator R?, comment 15mR
Resistor Thick Film 0.015Ohm 0.5% 0.5W 2-Pin 0805 T/R; Manufacturer: Panasonic; Manufacturer Part Number: ERJ-6CWDR015V; Supplier 1: Digikey; RoHS: No; Category: Chip SMD Resistors; Stock 1: 4962; Pricing 1: 1=0.61, 10=0.427, 25=0.3652, 50=0.3176, 100=0.2488, 250=0.22764, 500=0.1853, 1000=0.14697 (USD); ComponentLink1URL: https://datasheet.octopart.com/ERJ6CWDR015V-Panasonic-datasheet-68299093.pdf?src-supplier=Future+Electronics; ComponentLink1Description: https://datasheet.octopart.com/ERJ6CWDR015V-Panasonic-datasheet-68299093.pdf?src-supplier=Future+Electronics; ComponentLink2URL: https://industrial.panasonic.com/cdbs/www-data/pdf/RDN0000/AOA0000C313.pdf?src-supplier=Digikey; ComponentLink2Description: https://industrial.panasonic.com/cdbs/www-data/pdf/RDN0000/AOA0000C313.pdf?src-supplier=Digikey; ComponentLink3URL: https://datasheet.octopart.com/ERJ-6CWDR015V-Panasonic-datasheet-136473239.pdf?src-supplier=Electro+Sonic; ComponentLink3Description: https://datasheet.octopart.com/ERJ-6CWDR015V-Panasonic-datasheet-136473239.pdf?src-supplier=Electro+Sonic; Supplier Part Number 1: P124405CT-ND
footprint 0805
pins: 1, 2

## ERJ-6CWDR020V
designator R?, comment 20mR
Resistor Thick Film 0.02Ohm 0.5% 0.5W 2-Pin 0805 T/R; Manufacturer: Panasonic; Manufacturer Part Number: ERJ-6CWDR020V; Supplier 1: Digikey; RoHS: No; Category: Chip SMD Resistors; Stock 1: 1997; Pricing 1: 1=0.61, 10=0.427, 25=0.3652, 50=0.3176, 100=0.2488, 250=0.22764, 500=0.1853, 1000=0.14697 (USD); ComponentLink1URL: https://datasheet.octopart.com/ERJ-6CWDR020V-Panasonic-datasheet-68299093.pdf?src-supplier=Future+Electronics; ComponentLink1Description: https://datasheet.octopart.com/ERJ-6CWDR020V-Panasonic-datasheet-68299093.pdf?src-supplier=Future+Electronics; ComponentLink2URL: http://industrial.panasonic.com/cdbs/www-data/pdf/RDN0000/AOA0000C313.pdf?src-supplier=Newark; ComponentLink2Description: http://industrial.panasonic.com/cdbs/www-data/pdf/RDN0000/AOA0000C313.pdf?src-supplier=Newark; ComponentLink3URL: http://industrial.panasonic.com/cdbs/www-data/pdf/RDN0000/AOA0000C313.pdf?src-supplier=Farnell; ComponentLink3Description: http://industrial.panasonic.com/cdbs/www-data/pdf/RDN0000/AOA0000C313.pdf?src-supplier=Farnell; ComponentLink4URL: https://industrial.panasonic.com/cdbs/www-data/pdf/RDN0000/AOA0000C313.pdf?src-supplier=Digikey; ComponentLink4Description: https://industrial.panasonic.com/cdbs/www-data/pdf/RDN0000/AOA0000C313.pdf?src-supplier=Digikey; Supplier Part Number 1: P124408CT-ND
footprint 0805
pins: 1, 2

## EXV106M050A9GAA
designator C?, comment 10uF
Aluminum Electrolytic Capacitor, Polarized, Aluminum (wet), 50V, 20% +Tol, 20% -Tol, 10uF, Surface Mount, 2626; Manufacturer: KEMET; Manufacturer Part Number: EXV106M050A9GAA; Dielectric Material: Aluminium; ESR (Equivalent Series Resistance): 2.6R; Leakage Current: 5uA; Ripple Current: 98mA; Tan Delta: 0.12; Supplier 1: Digikey; RoHS: Yes; Category: Aluminum Electrolytic Capacitors; Stock 1: 4766; Pricing 1: 1=0.48, 10=0.32, 50=0.2546, 100=0.2102, 500=0.16422 (USD); Mount: Surface Mount; Number of Pins: 2; Package Shape: Cylindrical; Size Code: 2626; Min Operating Temperature: -55°C; Max Operating Temperature: 105°C; Polarity: Polarized; Capacitance: 10uF; Capacitor Type: Aluminium; Negative Tolerance: 20%; Package Style: SMTMeter; Packaging: Tape and Reel; Positive Tolerance: 20%; Rated DC Voltage (URdc): 50V; Termination: Flat; Length: 7.8mm; Width: 6.6mm; Height: 5.4mm; Reach SVHC Compliant: Yes; RoHS Compliant: Yes; ComponentLink1URL: https://datasheet.ciiva.com:443/pdfs/VipMasterIC/IC/KEME/KEME-S-A0009591402/KEME-S-A0009591402-1.pdf?src-supplier=IHS+Markit; ComponentLink1Description: https://datasheet.ciiva.com:443/pdfs/VipMasterIC/IC/KEME/KEME-S-A0009591402/KEME-S-A0009591402-1.pdf?src-supplier=IHS+Markit; ComponentLink2URL: https://datasheet.ciiva.com/22698/1500293-22698078.pdf?src-supplier=Element14; ComponentLink2Description: https://datasheet.ciiva.com/22698/1500293-22698078.pdf?src-supplier=Element14; Supplier Part Number 1: 399-18153-1-ND
footprint EXV106M050A9GAA
pins: 1, 2

## FQD7P20TM
designator Q?, comment Supplier Part Number 1: FQD7P20TM  (hidden comment: P Channel MOSFET)
Power Field-Effect Transistor, 5.7A I(D), 200V, 0.69ohm, 1-Element, P-Channel, Silicon, Metal-oxide Semiconductor FET, TO-252; Manufacturer: ON Semiconductor / Fairchild; Package Body Material: Plastic; Avalanche Energy Rating (Eas): 570mJ; Case Connection: DRAIN; Drain-source On Resistance-Max: 690mR; Number of Elements: 1; Operating Mode: ENHANCEMENT MODE; Power Dissipation-Max (Abs): 55W; Pulsed Drain Current-Max (IDM): 22.8A; Transistor Application: SWITCHING; Qualification Status: Not Qualified; Supplier 1: Arrow Electronics; Manufacturer Part Number: FQD7P20TM; RoHS: Yes; Stock 1: 2500; Pricing 1: 1=1.0233, 10=0.8923, 25=0.8594, 100=0.7865, 250=0.713, 500=0.6833, 1000=0.4456 (USD); Number of Pins: 2; Package Shape: Rectangular; Transistor Element Material: SILICON; Max Operating Temperature: 150°C; Polarity/Channel Type: P-CHANNEL; Drain Current-Max (Abs) (ID): 5.7A; Drain Current-Max (ID): 5.7A; DS Breakdown Voltage-Min: 200V; FET Technology: METAL-OXIDE SEMICONDUCTOR; JESD-30 Code: R-PSSO-G2; Moisture Sensitivity Level: 1; Package Style: SMALL OUTLINEMeter; Surface Mount: Yes; Terminal Form: Gull Wing; Terminal Position: SINGLE; RoHS Compliant: Yes; JEDEC-95 Code: TO-252; Reach SVHC Compliant: No; ComponentLink1URL: https://datasheet.ciiva.com:443/pdfs/VipMasterIC/IC/ONSM/ONSM-S-A0003585248/ONSM-S-A0003585248-1.pdf?src-supplier=IHS+Markit; ComponentLink1Description: https://datasheet.ciiva.com:443/pdfs/VipMasterIC/IC/ONSM/ONSM-S-A0003585248/ONSM-S-A0003585248-1.pdf?src-supplier=IHS+Markit; ComponentLink2URL: https://datasheet.ciiva.com/22681/1789504-22681903.pdf?src-supplier=Element14; ComponentLink2Description: https://datasheet.ciiva.com/22681/1789504-22681903.pdf?src-supplier=Element14; ComponentLink3URL: https://datasheet.ciiva.com/4446/fqd7p20-112760-4446101.pdf?src-supplier=Mouser; ComponentLink3Description: https://datasheet.ciiva.com/4446/fqd7p20-112760-4446101.pdf?src-supplier=Mouser; ComponentLink4URL: https://datasheet.ciiva.com/932/fqd7p20-932688.pdf?src-supplier=Digikey; ComponentLink4Description: https://datasheet.ciiva.com/932/fqd7p20-932688.pdf?src-supplier=Digikey; ComponentLink5URL: https://datasheet.ciiva.com/11175/fqd7p20-11175870.pdf?src-supplier=Avnet; ComponentLink5Description: https://datasheet.ciiva.com/11175/fqd7p20-11175870.pdf?src-supplier=Avnet; ComponentLink6URL: https://datasheet.ciiva.com/16773/fqd7p20-16773159.pdf?src-supplier=Future+Electronics; ComponentLink6Description: https://datasheet.ciiva.com/16773/fqd7p20-16773159.pdf?src-supplier=Future+Electronics; ComponentLink7URL: https://datasheet.ciiva.com/8116/fqd7p20-8116061.pdf?src-supplier=Avnet; ComponentLink7Description: https://datasheet.ciiva.com/8116/fqd7p20-8116061.pdf?src-supplier=Avnet; ComponentLink8URL: https://datasheet.ciiva.com/932/fqd7p20-932689.pdf?src-supplier=Digikey; ComponentLink8Description: https://datasheet.ciiva.com/932/fqd7p20-932689.pdf?src-supplier=Digikey; ComponentLink9URL: https://datasheet.ciiva.com/932/fqd7p20-932687.pdf?src-supplier=Digikey; ComponentLink9Description: https://datasheet.ciiva.com/932/fqd7p20-932687.pdf?src-supplier=Digikey
footprint FQD7P20TM
pins: 1 G, 2 D, 3 S

## FT230XS-R
designator U?, comment Supplier Part Number 1: 768-1135-1-ND  (hidden comment: USB/UART Converter)
Microprocessor Circuit, CMOS, PDSO16; Manufacturer: FTDI; Manufacturer Part Number: FT230XS-R; Package Body Material: Plastic; Package Equivalence Code: SSOP16,.25; Power Supplies: 1.8/3.3,3.3/5V; Max Supply Voltage: 5.5V; Min Supply Voltage: 2.97V; Supply Voltage-Nom: 5V; Time @ Peak Reflow Temperature-Max (s): 40s; Qualification Status: Not Qualified; Supplier 1: Digikey; RoHS: Yes; Category: Interface ICs; Stock 1: 39349; Pricing 1: 1=2.26, 25=2.19, 100=2.12, 250=1.93, 500=1.7625 (USD); Package Code: SSOP; Number of Pins: 16; Package Shape: Rectangular; Min Operating Temperature: -40°C; Max Operating Temperature: 85°C; JESD-30 Code: R-PDSO-G16; Moisture Sensitivity Level: 3; Package Style: SMALL OUTLINE, SHRINK PITCHMeter; Peak Reflow Temperature (Cel): 260°C; Surface Mount: Yes; Technology: CMOS; Terminal Form: Gull Wing; Terminal Position: DUAL; Length: 4.9mm; Width: 3.91mm; Height - Seated (Max): 1.75mm; Terminal Pitch: 0.635mm; Temperature Grade: INDUSTRIAL; Reach SVHC Compliant: Yes; RoHS Compliant: Yes; ComponentLink1URL: https://datasheet.ciiva.com:443/pdfs/VipMasterIC/IC/FTDI/FTDI-S-A0001962455/FTDI-S-A0001962455-1.pdf?src-supplier=IHS+Markit; ComponentLink1Description: https://datasheet.ciiva.com:443/pdfs/VipMasterIC/IC/FTDI/FTDI-S-A0001962455/FTDI-S-A0001962455-1.pdf?src-supplier=IHS+Markit; ComponentLink2URL: https://datasheet.ciiva.com/30478/0900766b811020cb-30478167.pdf?src-supplier=Rs; ComponentLink2Description: https://datasheet.ciiva.com/30478/0900766b811020cb-30478167.pdf?src-supplier=Rs; ComponentLink3URL: https://datasheet.ciiva.com/4787/ds-ft230x-5395-4787571.pdf?src-supplier=Mouser; ComponentLink3Description: https://datasheet.ciiva.com/4787/ds-ft230x-5395-4787571.pdf?src-supplier=Mouser; ComponentLink4URL: https://datasheet.ciiva.com/1787/ds-ft230x-1787315.pdf?src-supplier=Digikey; ComponentLink4Description: https://datasheet.ciiva.com/1787/ds-ft230x-1787315.pdf?src-supplier=Digikey; ComponentLink5URL: https://datasheet.ciiva.com/1787/ft-x-series-1787316.pdf?src-supplier=Digikey; ComponentLink5Description: https://datasheet.ciiva.com/1787/ft-x-series-1787316.pdf?src-supplier=Digikey; ComponentLink6URL: https://datasheet.ciiva.com/1787/ft-x-series-1787317.pdf?src-supplier=Digikey; ComponentLink6Description: https://datasheet.ciiva.com/1787/ft-x-series-1787317.pdf?src-supplier=Digikey
footprint FT230XS-R
pins: 1 TXD, 2 RTS#, 3 VCCIO, 4 RXD, 5 GND, 6 CTS#, 7 CBUS2, 8 USBDP, 9 USBDM, 10 3V3OUT, 11 RESET#, 12 VCC, 13 GND, 14 CBUS1, 15 CBUS0, 16 CBUS3

## Gator Pin
designator G?, comment Gator Pin Holder  (value not drawn)
footprint Gator Pin
pins: 1